# EAGLE library part TM1651 (library tm1651)
LED Driver
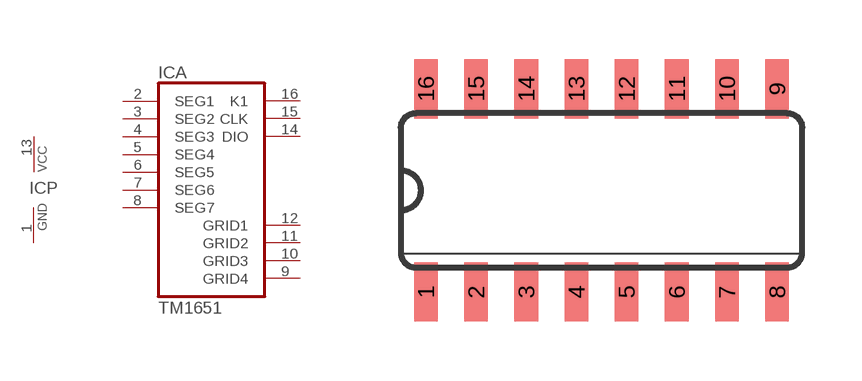
[diagram p0: symbol with the pads of SO16; footprint SO16]

Designator prefix IC; gates A=TM1651 P=PWRN

## TM1651  [SO16]
1  P:GND  pwr
2  A:SEG1  in
3  A:SEG2  in
4  A:SEG3  in
5  A:SEG4  in
6  A:SEG5  in
7  A:SEG6  in
8  A:SEG7  in
9  A:GRID4
10  A:GRID3
11  A:GRID2
12  A:GRID1
13  P:VCC  pwr
14  A:DIO
15  A:CLK
16  A:K1

## Footprint SO16 (pad centres in mm)
Small Outline package 150 mil
smd 0.6 x 1.5: 1 -4.445,-2.573; 2 -3.175,-2.573; 3 -1.905,-2.573; 4 -0.635,-2.573; 5 0.635,-2.573; 6 1.905,-2.573; 7 3.175,-2.573; 8 4.445,-2.573; 9 4.445,2.573; 10 3.175,2.573; 11 1.905,2.573; 12 0.635,2.573; 13 -0.635,2.573; 14 -1.905,2.573; 15 -3.175,2.573; 16 -4.445,2.573